# Altium schematic symbol library NT90TNCE12CB.SchLib: 1 symbol
Pins are listed as number, name and electrical type; pins without a type are passive.

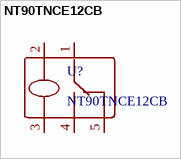
[diagram p0: symbol NT90TNCE12CB]

## NT90TNCE12CB
designator U?
pins: 1, 2, 3, 4, 5